# EAGLE library part SKY13350-385LF (library SKY13350-385LF)
SKY13350-385LF: 0.01-6.0 GHz GaAs SPDT Switch
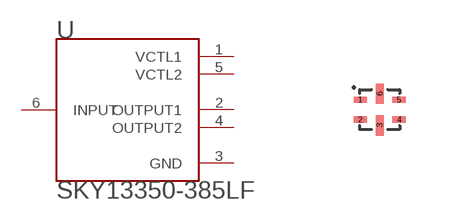
[diagram p0: symbol with the pads of SON50P100X100X50-6N; footprint SON50P100X100X50-6N]

Designator prefix U

## SKY13350-385LF (Availability: Unavailable; Description: RF Switch, SPDT, 0.8 to 6 GHz, 0.35 dB IL, 25 dB Isolation, 31 dBm Pwr Rating, MLPD-6, GaAs; MF: Skyworks Solutions; MP: SKY13350-385LF; Package: XFDFN-6 Skyworks Solutions; Price: None)  [SON50P100X100X50-6N]
1  VCTL1  pwr
2  OUTPUT1  out
3  GND  pwr
4  OUTPUT2  out
5  VCTL2  pwr
6  INPUT  in

## Footprint SON50P100X100X50-6N (pad centres in mm)
smd 0.33 x 0.15: 1 -0.485,0.25; 2 -0.485,-0.25; 4 0.485,-0.25; 5 0.485,0.25
smd 0.2 x 0.51: 3 0,-0.395; 6 0,0.395